# Altium footprint library 主控制.PcbLib: 139 footprints (part 8 of 9)
Each footprint in its own frame and in the unit in brackets; x right, y up, seen from the top. Pads: shape width x height; smd on the part's side, far side on the other; paste and mask are expansions set on the pad; w line width, h text height; cw(c..) or ccw(c..) is an arc to the next point about the centre after c.
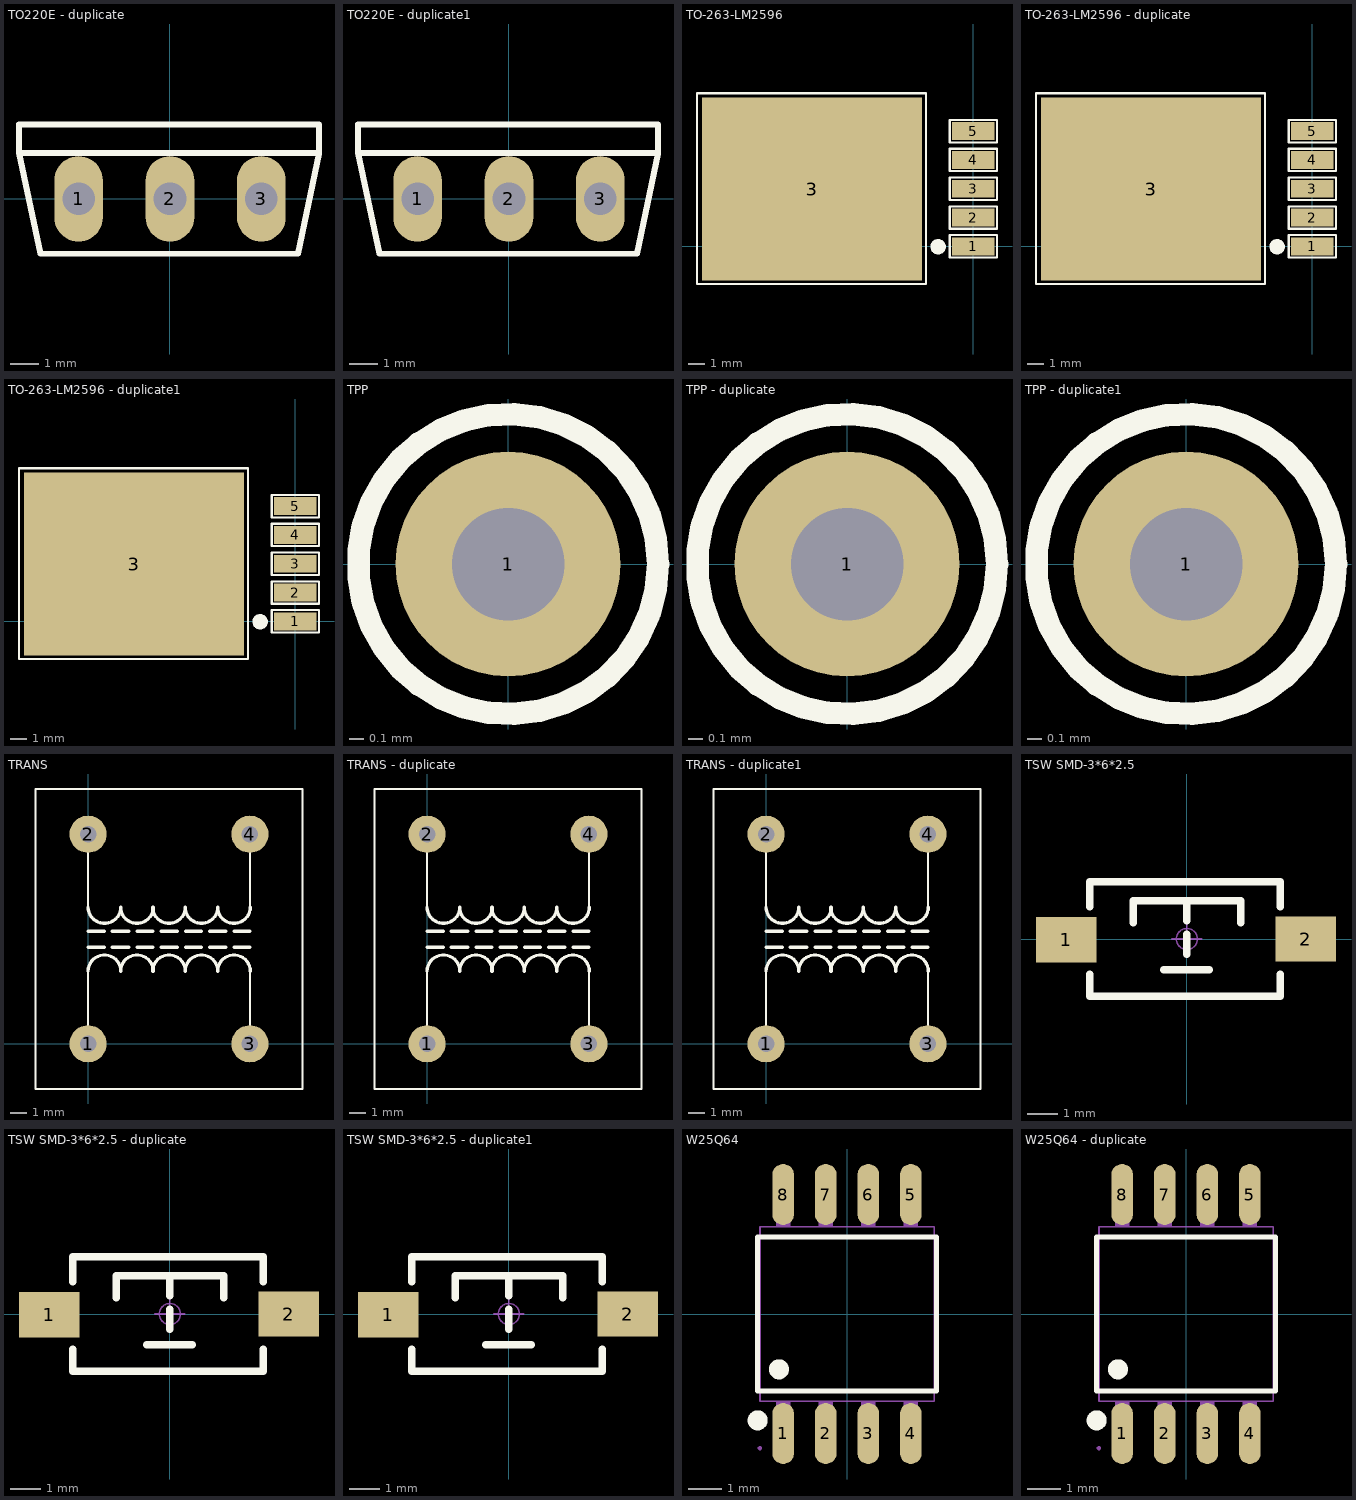
[diagram p7: the footprints below, top view; thin cyan lines are the x and y axes]

## TO220E - duplicate [mil]
pads (3):
  oval 67x118 hole 45: 1(-125.76,-0.44) 2(0.24,-0.44) 3(126.24,-0.44)
Top Overlay:
  lines w8: -197.23,102.03 205.77,102.03 205.77,62.03 176.77,-75.97 -178.23,-75.97 -207.95,63.02 ; -192.21,102.03 -207.59,102.03 -207.95,102.39 -207.95,63.02 ; 204.78,63.02 -207.95,63.02

## TO220E - duplicate1 [mil]
pads (3):
  oval 67x118 hole 45: 1(-125.76,-0.44) 2(0.24,-0.44) 3(126.24,-0.44)
Top Overlay:
  lines w8: -197.23,102.03 205.77,102.03 205.77,62.03 176.77,-75.97 -178.23,-75.97 -207.95,63.02 ; -192.21,102.03 -207.59,102.03 -207.95,102.39 -207.95,63.02 ; 204.78,63.02 -207.95,63.02

## TO-263-LM2596 [mm]
pads (6):
  rect 2.5x1.06 smd: 1(0,0) 2(0,1.702) 3(0,3.404) 4(0,5.105) 5(0,6.807)
  rect 13x10.8 smd: 3(-9.53,3.388)
Top Overlay:
  lines w0.127: -2.159,-0.025 -1.928,-0.025 -1.905,-0.049 ; -2.108,-0.254 -2.108,-0.076 -2.057,-0.025 -2.057,0.229 ; 1.397,-0.66 -1.397,-0.66 -1.397,0.66 1.397,0.66 1.397,-0.635 ; 1.397,1.041 -1.397,1.041 -1.397,2.362 1.397,2.362 1.397,1.067 ; 1.397,2.743 -1.397,2.743 -1.397,4.064 1.397,4.064 1.397,2.769 ; 1.397,4.445 -1.397,4.445 -1.397,5.766 1.397,5.766 1.397,4.47 ; 1.397,6.147 -1.397,6.147 -1.397,7.468 1.397,7.468 1.397,6.172 ; -16.337,-2.225 -16.337,9.053 -2.799,9.053 -2.799,-2.225 -16.337,-2.225
  lines w0.254: -2.306,0.22 ccw(c-2.083,-0.025) -2.292,0.231 ; -1.905,-0.049 cw(c-2.083,-0.025) -1.903,-0.025

## TO-263-LM2596 - duplicate [mm]
pads (6):
  rect 2.5x1.06 smd: 1(0,0) 2(0,1.702) 3(0,3.404) 4(0,5.105) 5(0,6.807)
  rect 13x10.8 smd: 3(-9.53,3.388)
Top Overlay:
  lines w0.127: -2.159,-0.025 -1.928,-0.025 -1.905,-0.049 ; -2.108,-0.254 -2.108,-0.076 -2.057,-0.025 -2.057,0.229 ; 1.397,-0.66 -1.397,-0.66 -1.397,0.66 1.397,0.66 1.397,-0.635 ; 1.397,1.041 -1.397,1.041 -1.397,2.362 1.397,2.362 1.397,1.067 ; 1.397,2.743 -1.397,2.743 -1.397,4.064 1.397,4.064 1.397,2.769 ; 1.397,4.445 -1.397,4.445 -1.397,5.766 1.397,5.766 1.397,4.47 ; 1.397,6.147 -1.397,6.147 -1.397,7.468 1.397,7.468 1.397,6.172 ; -16.337,-2.225 -16.337,9.053 -2.799,9.053 -2.799,-2.225 -16.337,-2.225
  lines w0.254: -2.306,0.22 ccw(c-2.083,-0.025) -2.292,0.231 ; -1.905,-0.049 cw(c-2.083,-0.025) -1.903,-0.025

## TO-263-LM2596 - duplicate1 [mm]
pads (6):
  rect 2.5x1.06 smd: 1(0,0) 2(0,1.702) 3(0,3.404) 4(0,5.105) 5(0,6.807)
  rect 13x10.8 smd: 3(-9.53,3.388)
Top Overlay:
  lines w0.127: -2.159,-0.025 -1.928,-0.025 -1.905,-0.049 ; -2.108,-0.254 -2.108,-0.076 -2.057,-0.025 -2.057,0.229 ; 1.397,-0.66 -1.397,-0.66 -1.397,0.66 1.397,0.66 1.397,-0.635 ; 1.397,1.041 -1.397,1.041 -1.397,2.362 1.397,2.362 1.397,1.067 ; 1.397,2.743 -1.397,2.743 -1.397,4.064 1.397,4.064 1.397,2.769 ; 1.397,4.445 -1.397,4.445 -1.397,5.766 1.397,5.766 1.397,4.47 ; 1.397,6.147 -1.397,6.147 -1.397,7.468 1.397,7.468 1.397,6.172 ; -16.337,-2.225 -16.337,9.053 -2.799,9.053 -2.799,-2.225 -16.337,-2.225
  lines w0.254: -2.306,0.22 ccw(c-2.083,-0.025) -2.292,0.231 ; -1.905,-0.049 cw(c-2.083,-0.025) -1.903,-0.025

## TPP [mil]
pads (1):
  round 60 hole 30: 1(0,0)
Top Overlay:
  circle w6: c0,0 r40

## TPP - duplicate [mil]
pads (1):
  round 60 hole 30: 1(0,0)
Top Overlay:
  circle w6: c0,0 r40

## TPP - duplicate1 [mil]
pads (1):
  round 60 hole 30: 1(0,0)
Top Overlay:
  circle w6: c0,0 r40

## TRANS [mm]
pads (4):
  round 2.3 hole 1.016: 1(0,0) 2(0,12.954) 3(10.008,0) 4(10.008,12.954)
Top Overlay:
  lines w0.127: -3.251,-2.794 -3.251,-1.524 -3.251,14.351 -3.251,15.748 -2.997,15.748 ; -3.226,-2.794 -1.473,-2.794 11.532,-2.794 ; -3.124,15.748 -1.219,15.748 11.786,15.748 ; 0,-0.025 0,2.464 0,4.47 ; 0,8.458 0,9.957 0,12.471 ; 5.004,-2.794 13.259,-2.794 13.259,-1.524 13.259,14.097 13.259,15.748 13.132,15.748 11.608,15.748 ; 10.008,-0.025 10.008,2.464 10.008,4.47 ; 10.008,8.458 10.008,9.957 10.008,12.471
  lines w0.203: 0,4.47 cw(c1.016,4.47) 2.032,4.47 ; 0,5.969 1.016,5.969 ; 0,6.96 1.016,6.96 ; 0,8.458 ccw(c1.016,8.458) 2.032,8.458 ; 1.499,5.969 2.515,5.969 ; 1.499,6.96 2.515,6.96 ; 2.007,4.47 cw(c3.023,4.47) 4.039,4.47 ; 2.007,8.458 ccw(c3.023,8.458) 4.039,8.458 ; 3.023,5.969 4.013,5.969 ; 3.023,6.96 4.013,6.96 ; 3.988,4.47 cw(c5.004,4.47) 6.02,4.47 ; 3.988,8.458 ccw(c5.004,8.458) 6.02,8.458 ; 4.521,5.969 5.512,5.969 ; 4.521,6.96 5.512,6.96 ; 5.994,4.47 cw(c7.01,4.47) 8.026,4.47 ; 5.994,8.458 ccw(c7.01,8.458) 8.026,8.458 ; 6.02,5.969 7.01,5.969 ; 6.02,6.96 7.01,6.96 ; 7.518,5.969 8.509,5.969 ; 7.518,6.96 8.509,6.96 ; 8.001,4.47 cw(c9.017,4.47) 10.033,4.47 ; 8.001,8.458 ccw(c9.017,8.458) 10.033,8.458 ; 9.017,5.969 10.008,5.969 ; 9.017,6.96 10.008,6.96

## TRANS - duplicate [mm]
pads (4):
  round 2.3 hole 1.016: 1(0,0) 2(0,12.954) 3(10.008,0) 4(10.008,12.954)
Top Overlay:
  lines w0.127: -3.251,-2.794 -3.251,-1.524 -3.251,14.351 -3.251,15.748 -2.997,15.748 ; -3.226,-2.794 -1.473,-2.794 11.532,-2.794 ; -3.124,15.748 -1.219,15.748 11.786,15.748 ; 0,-0.025 0,2.464 0,4.47 ; 0,8.458 0,9.957 0,12.471 ; 5.004,-2.794 13.259,-2.794 13.259,-1.524 13.259,14.097 13.259,15.748 13.132,15.748 11.608,15.748 ; 10.008,-0.025 10.008,2.464 10.008,4.47 ; 10.008,8.458 10.008,9.957 10.008,12.471
  lines w0.203: 0,4.47 cw(c1.016,4.47) 2.032,4.47 ; 0,5.969 1.016,5.969 ; 0,6.96 1.016,6.96 ; 0,8.458 ccw(c1.016,8.458) 2.032,8.458 ; 1.499,5.969 2.515,5.969 ; 1.499,6.96 2.515,6.96 ; 2.007,4.47 cw(c3.023,4.47) 4.039,4.47 ; 2.007,8.458 ccw(c3.023,8.458) 4.039,8.458 ; 3.023,5.969 4.013,5.969 ; 3.023,6.96 4.013,6.96 ; 3.988,4.47 cw(c5.004,4.47) 6.02,4.47 ; 3.988,8.458 ccw(c5.004,8.458) 6.02,8.458 ; 4.521,5.969 5.512,5.969 ; 4.521,6.96 5.512,6.96 ; 5.994,4.47 cw(c7.01,4.47) 8.026,4.47 ; 5.994,8.458 ccw(c7.01,8.458) 8.026,8.458 ; 6.02,5.969 7.01,5.969 ; 6.02,6.96 7.01,6.96 ; 7.518,5.969 8.509,5.969 ; 7.518,6.96 8.509,6.96 ; 8.001,4.47 cw(c9.017,4.47) 10.033,4.47 ; 8.001,8.458 ccw(c9.017,8.458) 10.033,8.458 ; 9.017,5.969 10.008,5.969 ; 9.017,6.96 10.008,6.96

## TRANS - duplicate1 [mm]
pads (4):
  round 2.3 hole 1.016: 1(0,0) 2(0,12.954) 3(10.008,0) 4(10.008,12.954)
Top Overlay:
  lines w0.127: -3.251,-2.794 -3.251,-1.524 -3.251,14.351 -3.251,15.748 -2.997,15.748 ; -3.226,-2.794 -1.473,-2.794 11.532,-2.794 ; -3.124,15.748 -1.219,15.748 11.786,15.748 ; 0,-0.025 0,2.464 0,4.47 ; 0,8.458 0,9.957 0,12.471 ; 5.004,-2.794 13.259,-2.794 13.259,-1.524 13.259,14.097 13.259,15.748 13.132,15.748 11.608,15.748 ; 10.008,-0.025 10.008,2.464 10.008,4.47 ; 10.008,8.458 10.008,9.957 10.008,12.471
  lines w0.203: 0,4.47 cw(c1.016,4.47) 2.032,4.47 ; 0,5.969 1.016,5.969 ; 0,6.96 1.016,6.96 ; 0,8.458 ccw(c1.016,8.458) 2.032,8.458 ; 1.499,5.969 2.515,5.969 ; 1.499,6.96 2.515,6.96 ; 2.007,4.47 cw(c3.023,4.47) 4.039,4.47 ; 2.007,8.458 ccw(c3.023,8.458) 4.039,8.458 ; 3.023,5.969 4.013,5.969 ; 3.023,6.96 4.013,6.96 ; 3.988,4.47 cw(c5.004,4.47) 6.02,4.47 ; 3.988,8.458 ccw(c5.004,8.458) 6.02,8.458 ; 4.521,5.969 5.512,5.969 ; 4.521,6.96 5.512,6.96 ; 5.994,4.47 cw(c7.01,4.47) 8.026,4.47 ; 5.994,8.458 ccw(c7.01,8.458) 8.026,8.458 ; 6.02,5.969 7.01,5.969 ; 6.02,6.96 7.01,6.96 ; 7.518,5.969 8.509,5.969 ; 7.518,6.96 8.509,6.96 ; 8.001,4.47 cw(c9.017,4.47) 10.033,4.47 ; 8.001,8.458 ccw(c9.017,8.458) 10.033,8.458 ; 9.017,5.969 10.008,5.969 ; 9.017,6.96 10.008,6.96

## TSW SMD-3*6*2.5 [mm] "3*6*2.5mm"
pads (2):
  rect 2x1.5 smd: 1(-3.996,-0.02) 2(3.937,0)
Top Overlay:
  lines w0.254: -3.212,-1.168 -3.212,-1.9 3.088,-1.9 3.088,-1.168 ; -3.212,1.067 -3.212,1.9 3.088,1.9 3.088,1.067 ; -1.778,0.533 -1.778,1.27 1.778,1.27 1.778,0.533 ; -0.762,-1.016 0.737,-1.016 ; 0,-0.508 0,0.152 ; 0,0.61 0,1.27
Mechanical 15:
  circle w0.05: c0,0 r0.35
  lines w0.05: -0.5,0 0.5,0 ; 0,-0.5 0,0.5
3D body "TSW SMD-3x6x2.5.STEP": height 2.59, standoff -0.03, extent -4,-1.877 4,1.623

## TSW SMD-3*6*2.5 - duplicate [mm]
pads (2):
  rect 2x1.5 smd: 1(-3.996,-0.02) 2(3.937,0)
Top Overlay:
  lines w0.254: -3.212,-1.168 -3.212,-1.9 3.088,-1.9 3.088,-1.168 ; -3.212,1.067 -3.212,1.9 3.088,1.9 3.088,1.067 ; -1.778,0.533 -1.778,1.27 1.778,1.27 1.778,0.533 ; -0.762,-1.016 0.737,-1.016 ; 0,-0.508 0,0.152 ; 0,0.61 0,1.27
Mechanical 15:
  circle w0.05: c0,0 r0.35
  lines w0.05: -0.5,0 0.5,0 ; 0,-0.5 0,0.5
3D body "TSW SMD-3x6x2.5.STEP": height 2.59, standoff -0.03, extent -4,-1.877 4,1.623

## TSW SMD-3*6*2.5 - duplicate1 [mm]
pads (2):
  rect 2x1.5 smd: 1(-3.996,-0.02) 2(3.937,0)
Top Overlay:
  lines w0.254: -3.212,-1.168 -3.212,-1.9 3.088,-1.9 3.088,-1.168 ; -3.212,1.067 -3.212,1.9 3.088,1.9 3.088,1.067 ; -1.778,0.533 -1.778,1.27 1.778,1.27 1.778,0.533 ; -0.762,-1.016 0.737,-1.016 ; 0,-0.508 0,0.152 ; 0,0.61 0,1.27
Mechanical 15:
  circle w0.05: c0,0 r0.35
  lines w0.05: -0.5,0 0.5,0 ; 0,-0.5 0,0.5
3D body "TSW SMD-3x6x2.5.STEP": height 2.59, standoff -0.03, extent -4,-1.877 4,1.623

## W25Q64 [mm]
pads (8):
  oval 0.65x1.822 smd: 1(-1.905,-3.566) 2(-0.635,-3.566) 3(0.635,-3.566) 4(1.905,-3.566) 5(1.905,3.566) 6(0.635,3.566) 7(-0.635,3.566) 8(-1.905,3.566)
Top Overlay:
  circle w0.3: c-2.032,-1.651 r0.15
  circle w0.3: c-2.667,-3.175 r0.15
  lines w0.152: -2.676,-2.295 -2.676,2.295 2.676,2.295 2.676,-2.295 -2.676,-2.295
Mechanical 6:
  circle w0.3: c-1.905,-3.048 r0.15
Mechanical 15:
  region: -2.54,-4 -2.54,-3.975 -2.575,-3.94 -2.625,-3.94 -2.66,-3.975 -2.66,-4 -2.66,-4.025 -2.625,-4.06 -2.575,-4.06 -2.54,-4.025
  region: -1.695,-4 -1.695,-3.38 -2.115,-3.38 -2.115,-4
  region: -1.695,-3.39 -1.695,-2.59 -2.115,-2.59 -2.115,-3.39
  region: -0.425,-4 -0.425,-3.38 -0.845,-3.38 -0.845,-4
  region: -0.425,-3.39 -0.425,-2.59 -0.845,-2.59 -0.845,-3.39
  region: 0.845,-4 0.845,-3.38 0.425,-3.38 0.425,-4
  region: 0.845,-3.39 0.845,-2.59 0.425,-2.59 0.425,-3.39
  region: 2.115,-4 2.115,-3.38 1.695,-3.38 1.695,-4
  region: 2.115,-3.39 2.115,-2.59 1.695,-2.59 1.695,-3.39
  region: 2.115,4 2.115,3.38 1.695,3.38 1.695,4
  region: 2.115,3.39 2.115,2.59 1.695,2.59 1.695,3.39
  region: 0.845,4 0.845,3.38 0.425,3.38 0.425,4
  region: 0.845,3.39 0.845,2.59 0.425,2.59 0.425,3.39
  region: -0.425,4 -0.425,3.38 -0.845,3.38 -0.845,4
  region: -0.425,3.39 -0.425,2.59 -0.845,2.59 -0.845,3.39
  region: -1.695,4 -1.695,3.38 -2.115,3.38 -2.115,4
  region: -1.695,3.39 -1.695,2.59 -2.115,2.59 -2.115,3.39
  lines w0.051: -2.6,-2.6 -2.6,2.6 2.6,2.6 2.6,-2.6 -2.6,-2.6

## W25Q64 - duplicate [mm]
pads (8):
  oval 0.65x1.822 smd: 1(-1.905,-3.566) 2(-0.635,-3.566) 3(0.635,-3.566) 4(1.905,-3.566) 5(1.905,3.566) 6(0.635,3.566) 7(-0.635,3.566) 8(-1.905,3.566)
Top Overlay:
  circle w0.3: c-2.667,-3.175 r0.15
  circle w0.3: c-2.032,-1.651 r0.15
  lines w0.152: -2.676,-2.295 2.676,-2.295 2.676,2.295 -2.676,2.295 -2.676,-2.295
Mechanical 6:
  circle w0.3: c-1.905,-3.048 r0.15
Mechanical 15:
  region: -1.695,3.39 -1.695,2.59 -2.115,2.59 -2.115,3.39
  region: -1.695,4 -1.695,3.38 -2.115,3.38 -2.115,4
  region: -0.425,3.39 -0.425,2.59 -0.845,2.59 -0.845,3.39
  region: -0.425,4 -0.425,3.38 -0.845,3.38 -0.845,4
  region: 0.845,3.39 0.845,2.59 0.425,2.59 0.425,3.39
  region: 0.845,4 0.845,3.38 0.425,3.38 0.425,4
  region: 2.115,3.39 2.115,2.59 1.695,2.59 1.695,3.39
  region: 2.115,4 2.115,3.38 1.695,3.38 1.695,4
  region: 2.115,-3.39 2.115,-2.59 1.695,-2.59 1.695,-3.39
  region: 2.115,-4 2.115,-3.38 1.695,-3.38 1.695,-4
  region: 0.845,-3.39 0.845,-2.59 0.425,-2.59 0.425,-3.39
  region: 0.845,-4 0.845,-3.38 0.425,-3.38 0.425,-4
  region: -0.425,-3.39 -0.425,-2.59 -0.845,-2.59 -0.845,-3.39
  region: -0.425,-4 -0.425,-3.38 -0.845,-3.38 -0.845,-4
  region: -1.695,-3.39 -1.695,-2.59 -2.115,-2.59 -2.115,-3.39
  region: -1.695,-4 -1.695,-3.38 -2.115,-3.38 -2.115,-4
  region: -2.54,-4 -2.54,-3.975 -2.575,-3.94 -2.625,-3.94 -2.66,-3.975 -2.66,-4 -2.66,-4.025 -2.625,-4.06 -2.575,-4.06 -2.54,-4.025
  lines w0.051: -2.6,-2.6 2.6,-2.6 2.6,2.6 -2.6,2.6 -2.6,-2.6